# EAGLE library part AD8217BRMZ (library farnell-parts)
High Resolution, Zero-Drift Current Shunt Monitor
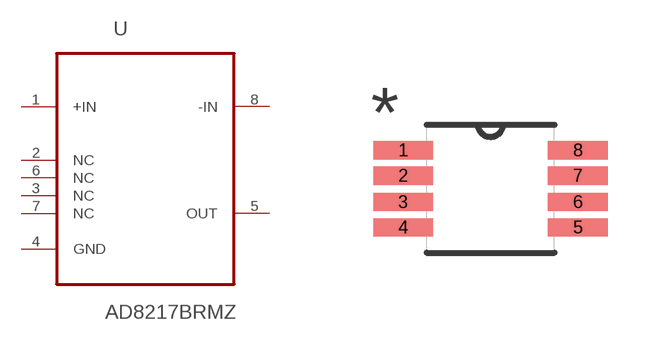
[diagram p3: symbol with the pads of SOP65P490X110-8N; footprint SOP65P490X110-8N]

Designator prefix U

## AD8217BRMZ (MPN: AD8217BRMZ; OC_FARNELL: 2081036; OC_NEWARK: 85R6443; PACKAGE: MSOP-8; SUPPLIER: Analog Devices)  [SOP65P490X110-8N]
1  +IN  pwr
2  NC  nc
3  NC  nc
4  GND  pwr
5  OUT  out
6  NC  nc
7  NC  nc
8  -IN  in

## Footprint SOP65P490X110-8N (pad centres in mm)
smd 1.499 x 0.457: 1 -2.184,0.965; 2 -2.184,0.33; 3 -2.184,-0.33; 4 -2.184,-0.965; 5 2.184,-0.965; 6 2.184,-0.33; 7 2.184,0.33; 8 2.184,0.965